# Altium footprint library QFN-36_6x6x05P.PcbLib: 1 footprints
Each footprint in its own frame and in the unit in brackets; x right, y up, seen from the top. Pads: shape width x height; smd on the part's side, far side on the other; paste and mask are expansions set on the pad; w line width, h text height; cw(c..) or ccw(c..) is an arc to the next point about the centre after c.
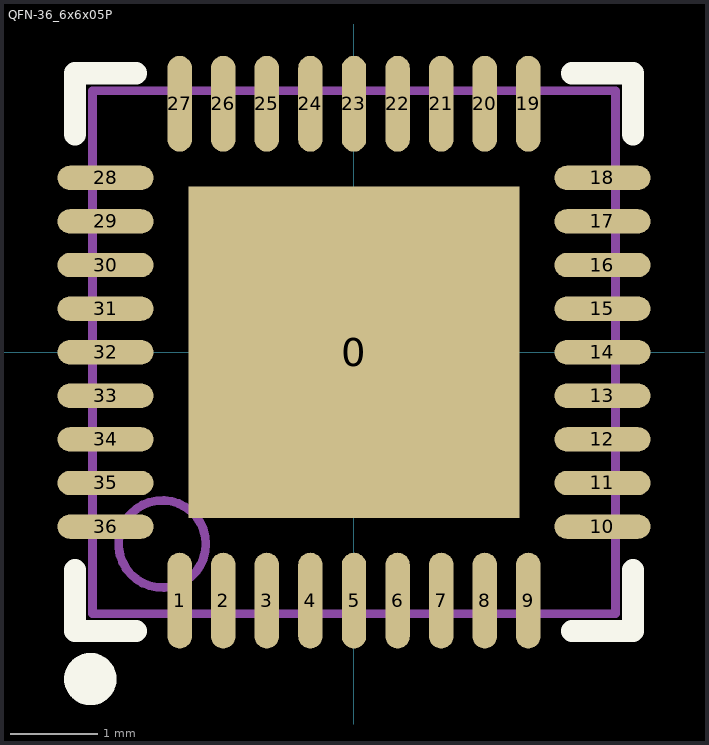
[diagram p0: the footprint, top view; thin cyan lines are the x and y axes]

## QFN-36_6x6x05P [mm]
pads (37):
  rect 3.8x3.8 smd mask+0.051: 0(0,0)
  oval 0.28x1.1 smd mask+0.051: 1(-2,-2.85) 2(-1.5,-2.85) 3(-1,-2.85) 4(-0.5,-2.85) 5(0,-2.85) 6(0.5,-2.85) 7(1,-2.85) 8(1.5,-2.85) 9(2,-2.85) 19(2,2.85) 20(1.5,2.85) 21(1,2.85) 22(0.5,2.85) 23(0,2.85) 24(-0.5,2.85) 25(-1,2.85) 26(-1.5,2.85) 27(-2,2.85)
  oval 1.1x0.28 smd mask+0.051: 10(2.85,-2) 11(2.85,-1.5) 12(2.85,-1) 13(2.85,-0.5) 14(2.85,0) 15(2.85,0.5) 16(2.85,1) 17(2.85,1.5) 18(2.85,2) 28(-2.85,2) 29(-2.85,1.5) 30(-2.85,1) 31(-2.85,0.5) 32(-2.85,0) 33(-2.85,-0.5) 34(-2.85,-1) 35(-2.85,-1.5) 36(-2.85,-2)
Top Overlay:
  circle w0.3: c-3.025,-3.75 r0.15
  lines w0.254: -3.2,-2.5 -3.2,-3.2 -2.5,-3.2 ; -3.2,2.5 -3.2,3.2 -2.5,3.2 ; 2.5,-3.2 3.2,-3.2 3.2,-2.5 ; 2.5,3.2 3.2,3.2 3.2,2.5
Mechanical 13:
  circle w0.1: c-2.2,-2.2 r0.5
  lines w0.1: -3,-3 3,-3 3,3 -3,3 -3,-3
3D body: height 0.9, standoff 0.01, extent -3.103,-3.102 3.103,3.103